# EAGLE library part ULN2803ADW (library Mainboard)
ULN2803ADW, Darlington Transistor Array, NPN 0.5 A 50 V, Octal, 18-Pin, SOIC Source: Datasheet <http://docs-europe.electrocomponents.com/webdocs/139e/0900766b8139e021.pdf>
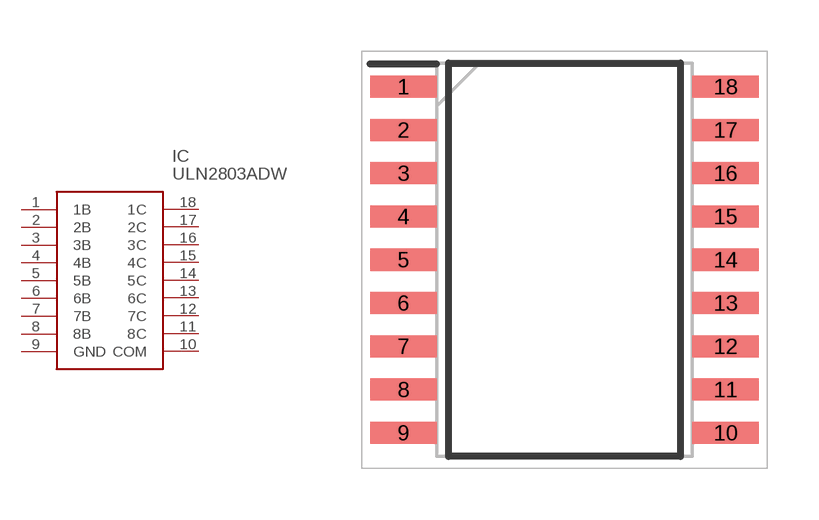
[diagram p3: symbol with the pads of SOIC127P1030X265-18N; footprint SOIC127P1030X265-18N]

Designator prefix IC

## ULN2803ADW (DESCRIPTION: ULN2803ADW, Darlington Transistor Array, NPN 0.5 A 50 V, Octal, 18-Pin, SOIC; HEIGHT: 2.65mm; MANUFACTURER_NAME: Texas Instruments; MANUFACTURER_PART_NUMBER: ULN2803ADW; RS_PART_NUMBER: 6466311P; SUPPLIER_NAME: RS)  [SOIC127P1030X265-18N]
1  1B  in
2  2B  in
3  3B  in
4  4B  in
5  5B  in
6  6B  in
7  7B  in
8  8B  in
9  GND  in
10  COM  in
11  8C  in
12  7C  in
13  6C  in
14  5C  in
15  4C  in
16  3C  in
17  2C  in
18  1C  in

## Footprint SOIC127P1030X265-18N (pad centres in mm)
DW (R-PDSO-G18)
smd 1.95 x 0.65: 1 -4.725,5.08; 2 -4.725,3.81; 3 -4.725,2.54; 4 -4.725,1.27; 5 -4.725,0; 6 -4.725,-1.27; 7 -4.725,-2.54; 8 -4.725,-3.81; 9 -4.725,-5.08; 10 4.725,-5.08; 11 4.725,-3.81; 12 4.725,-2.54; 13 4.725,-1.27; 14 4.725,0; 15 4.725,1.27; 16 4.725,2.54; 17 4.725,3.81; 18 4.725,5.08